# Altium integrated library LIB2022 - Crystals.IntLib: 4 symbols
Pins are listed as number, name and electrical type; pins without a type are passive.

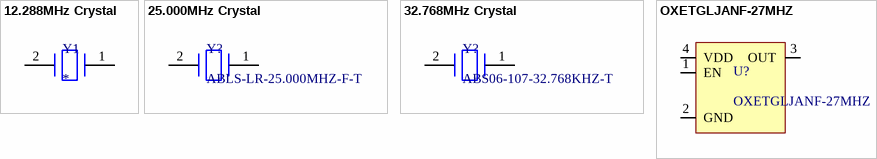
[diagram p0: symbols 12.288MHz Crystal to OXETGLJANF-27MHZ]

## 12.288MHz Crystal
designator Y1
footprint SMD5032
pins: 1, 2

## 25.000MHz Crystal
designator Y?, comment ABLS-LR-25.000MHZ-F-T
footprint HC49S
pins: 1, 2

## 32.768MHz Crystal
designator Y?, comment ABS06-107-32.768KHZ-T
footprint SMD2012
pins: 1, 2

## OXETGLJANF-27MHZ
designator U?
3.3V ±50ppm 27MHz SMD3225-4P Oscillators
footprint SMD3225
pins: 1 EN, 2 GND, 3 OUT, 4 VDD